# Altium schematic symbol library ov_ftdi.SCHLIB: 56 symbols
Pins are listed as number, name and electrical type; pins without a type are passive.

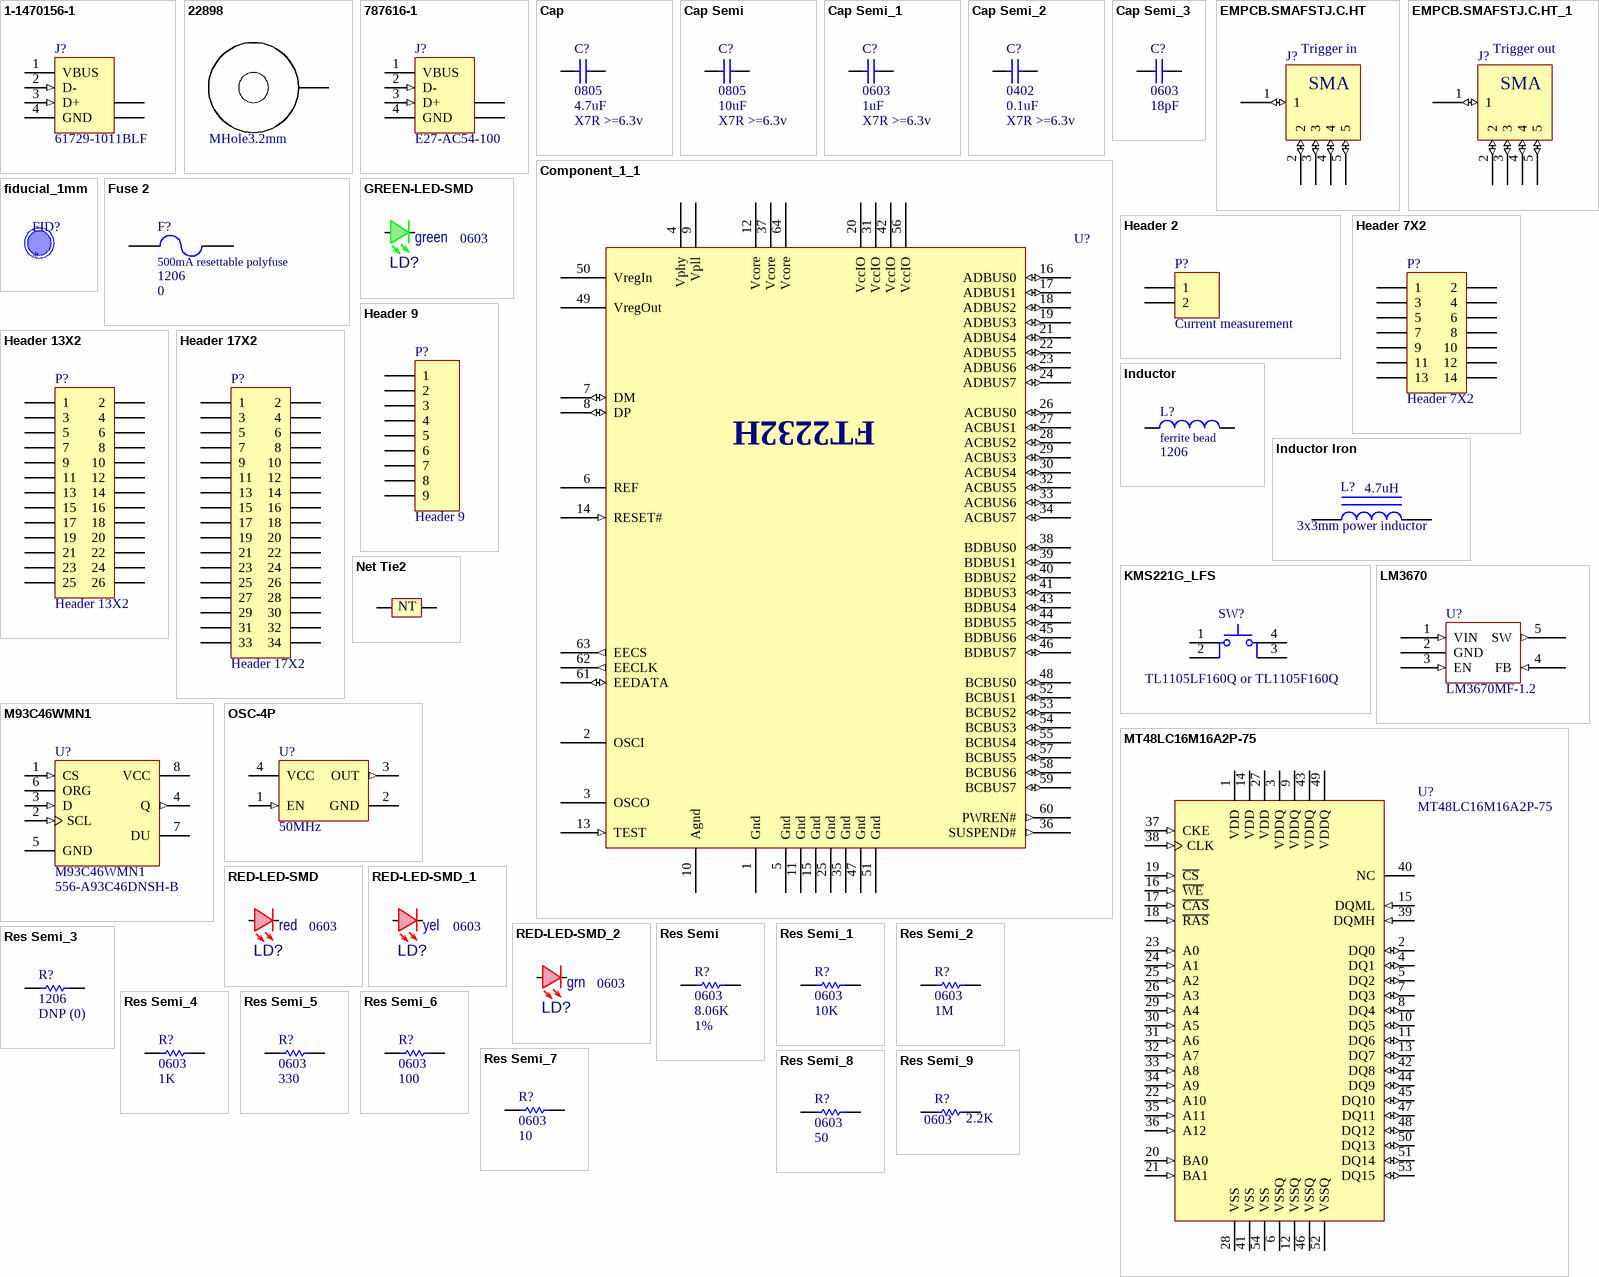
[diagram p0: symbols 1-1470156-1 to Res Semi_9]

## 1-1470156-1
designator J?  value 61729-1011BLF  (hidden comment: 1-1470156-1)
USB 1.1, Right Angle, Thru-Hole, B Type, Receptacle, 4 Position, White; Substitutable: no; PackageReference: 1-1470156
footprint 1-1470156 (Connector; USB1.1, Type B, Thru-Hole; 4 Position; Right Angle)
signal-integrity model USB1.1
pins: 1 VBUS (power) "Power", 2 D- (in) "-DATA", 3 D+ (in) "+DATA", 4 GND (power) "Ground", 5 SHLD "Shield", 6 SHLD "Shield"

## 22898
designator H?, comment MHole3.2mm  (no BOM)
Substitutable: DNP
footprint MHole3_2mm
footprint mounting hole
signal-integrity model Guessed Model (Connector Model Details Guessed by Setup Helper)
pins: 1

## 787616-1
designator J?  value E27-AC54-100  (hidden comment: 787616-1)
USB 1.1, Right Angle, Thru-Hole, A Type, Receptacle, 4 Position, Black; Substitutable: no
footprint 787616 (Connector; USB1.1, Type A, Thru-Hole; 4 Position; Right Angle)
signal-integrity model USB1.1
pins: 1 VBUS (power) "Power", 2 D- (in) "-DATA", 3 D+ (in) "+DATA", 4 GND (power) "Ground", 5 SHLD "Shield", 6 SHLD "Shield"

## Cap
designator C?, comment value 4.7uF  PackageReference: 0805  Rating: X7R >=6.3v  (hidden comment: Cap Semi)
Capacitor; Tolerance: -20%, +80%; Substitutable: yes; Supplier 1: Digi-Key; Supplier Part Number 1: 445-1370-1-ND
footprint RAD-0.3 (Capacitor; 2 Leads)
footprint VP32-3.2 (Capacitor, Ceramic, Thru-Hole, Dipped Radial; Body 5.1 x 3.2 mm (WxT) Pin Spacing 2.54 mm (typ))
footprint VP45-3.2 (Capacitor, Ceramic, Thru-Hole, Dipped Radial; Body 7.8 x 3.2 mm (WxT) Pin Spacing 5.08 mm (typ))
simulation model CAP (Capacitor)
signal-integrity model Cap
footprint 3216[1206] (Chip Resistor; Body 3.2 x 1.6 mm (LxW typ))
footprint CAPC1608L (Chip Capacitor, Body 1.6x0.8mm, IPC High Density)
footprint CAPC1608N
footprint CAPC2012N (Chip Capacitor, Body 2.0x1.3mm, IPC Medium Density)
pins: 1, 2

## Cap Semi
designator C?  value 10uF  PackageReference: 0805  Rating: X7R >=6.3v  (hidden comment: Cap Semi)
Capacitor (Semiconductor SIM Model); Tolerance: ±10%; Substitutable: yes; Supplier 1: Mouser; Supplier Part Number 1: 81-GRM21BR61A106KE19
footprint CAPC3216L (Chip Capacitor, Body 3.2x1.6mm, IPC High Density)
footprint CAPC1005L (Chip Capacitor, Body 1.0x0.5mm, IPC High Density)
footprint CAPC2512L (Chip Capacitor, Body 2.54x1.27mm, IPC High Density)
footprint CAPC1608N
footprint CAPC3225L (Chip Capacitor, Body 3.2x2.5mm, IPC High Density)
simulation model CAP (Semiconductor Capacitor)
signal-integrity model Cap Semi
footprint TC3528-1411 (Capacitor, SM Tantalum; Body 3.5 x 2.8 mm (LxW typ))
footprint CAPC2512N (Chip Capacitor, Body 2.54x1.27mm, IPC Medium Density)
footprint CAPC2012N (Chip Capacitor, Body 2.0x1.3mm, IPC Medium Density)
pins: 1, 2

## Cap Semi_1
designator C?, comment value 1uF  PackageReference: 0603  Rating: X7R >=6.3v  (hidden comment: Cap Semi)
Capacitor (Semiconductor SIM Model); Substitutable: yes; Supplier 1: Digi-Key; Supplier Part Number 1: 445-4703-1-ND
footprint CAPC3216L (Chip Capacitor, Body 3.2x1.6mm, IPC High Density)
footprint CAPC1005L (Chip Capacitor, Body 1.0x0.5mm, IPC High Density)
footprint CAPC2512L (Chip Capacitor, Body 2.54x1.27mm, IPC High Density)
footprint CAPC1608L (Chip Capacitor, Body 1.6x0.8mm, IPC High Density)
footprint CAPC3225L (Chip Capacitor, Body 3.2x2.5mm, IPC High Density)
simulation model CAP (Semiconductor Capacitor)
signal-integrity model Cap Semi
footprint CAPC1005N (Chip Capacitor, Body 1.0x0.5mm, IPC Medium Density)
footprint CAPC1608N
footprint CAPC2012N (Chip Capacitor, Body 2.0x1.3mm, IPC Medium Density)
pins: 1, 2

## Cap Semi_2
designator C?, comment value 0.1uF  PackageReference: 0402  Rating: X7R >=6.3v  (hidden comment: Cap Semi)
Capacitor (Semiconductor SIM Model); Tolerance: ±10%; Substitutable: yes; Supplier 1: Digi-Key; Supplier Part Number 1: 445-4703-1-ND; Supplier 2: Digi-Key; Supplier Part Number 2: 445-6854-1-ND
footprint CAPC3216L (Chip Capacitor, Body 3.2x1.6mm, IPC High Density)
footprint CAPC1005L (Chip Capacitor, Body 1.0x0.5mm, IPC High Density)
footprint CAPC2512L (Chip Capacitor, Body 2.54x1.27mm, IPC High Density)
footprint CAPC1608L (Chip Capacitor, Body 1.6x0.8mm, IPC High Density)
footprint CAPC3225L (Chip Capacitor, Body 3.2x2.5mm, IPC High Density)
simulation model CAP (Semiconductor Capacitor)
signal-integrity model Cap Semi
footprint TC3528-1411 (Capacitor, SM Tantalum; Body 3.5 x 2.8 mm (LxW typ))
footprint CAPC1608N
footprint CAPC2012N (Chip Capacitor, Body 2.0x1.3mm, IPC Medium Density)
footprint CAPC1005N (Chip Capacitor, Body 1.0x0.5mm, IPC Medium Density)
pins: 1, 2

## Cap Semi_3
designator C?, comment value 18pF  PackageReference: 0603  (hidden comment: Cap Semi)
Capacitor (Semiconductor SIM Model); Rating: C0G >=6.3v; Substitutable: yes; Supplier 1: Digi-Key; Supplier Part Number 1: 445-1777-1-ND
footprint CAPC3216L (Chip Capacitor, Body 3.2x1.6mm, IPC High Density)
footprint CAPC1005L (Chip Capacitor, Body 1.0x0.5mm, IPC High Density)
footprint CAPC2512L (Chip Capacitor, Body 2.54x1.27mm, IPC High Density)
footprint CAPC1608L (Chip Capacitor, Body 1.6x0.8mm, IPC High Density)
footprint CAPC3225L (Chip Capacitor, Body 3.2x2.5mm, IPC High Density)
simulation model CAP (Semiconductor Capacitor)
signal-integrity model Cap Semi
footprint CAPC1005N (Chip Capacitor, Body 1.0x0.5mm, IPC Medium Density)
footprint CAPC2012N (Chip Capacitor, Body 2.0x1.3mm, IPC Medium Density)
footprint CAPC1608N
pins: 1, 2

## Component_1_1
designator U?, comment Component_1  (value not drawn)
FT2232H; Substitutable: no; Supplier 1: Mouser; Supplier Part Number 1: 895-FT2232HL; PackageReference: QFP-64; Value: FT2232H
footprint SQFP50P1200X1200X180-64N (SQFP, 64-Leads, Body 12.2x12.2mm (max), Pitch 0.50mm, IPC Medium Density)
signal-integrity model Guessed Model (IC Model Details Guessed by Setup Helper)
pins: 1 Gnd (power), 2 OSCI, 3 OSCO, 4 Vphy (power), 5 Gnd (power), 6 REF, 7 DM (io), 8 DP (io), 9 Vpll (power), 10 Agnd (power), 11 Gnd (power), 12 Vcore (power), 13 TEST (in), 14 RESET# (in), 15 Gnd (power), 16 ADBUS0 (io), 17 ADBUS1 (io), 18 ADBUS2 (io), 19 ADBUS3 (io), 20 VccIO (power), 21 ADBUS4 (io), 22 ADBUS5 (io), 23 ADBUS6 (io), 24 ADBUS7 (io), 25 Gnd (power), 26 ACBUS0 (io), 27 ACBUS1 (io), 28 ACBUS2 (io), 29 ACBUS3 (io), 30 ACBUS4 (io), 31 VccIO (power), 32 ACBUS5 (io), 33 ACBUS6 (io), 34 ACBUS7 (io), 35 Gnd (power), 36 SUSPEND# (out), 37 Vcore (power), 38 BDBUS0 (io), 39 BDBUS1 (io), 40 BDBUS2 (io), 41 BDBUS3 (io), 42 VccIO (power), 43 BDBUS4 (io), 44 BDBUS5 (io), 45 BDBUS6 (io), 46 BDBUS7 (io), 47 Gnd (power), 48 BCBUS0 (io), 49 VregOut (power), 50 VregIn (power), 51 Gnd (power), 52 BCBUS1 (io), 53 BCBUS2 (io), 54 BCBUS3 (io), 55 BCBUS4 (io), 56 VccIO (power), 57 BCBUS5 (io), 58 BCBUS6 (io), 59 BCBUS7 (io), 60 PWREN# (out), 61 EEDATA (io), 62 EECLK (out), 63 EECS (out), 64 Vcore (power)

## EMPCB.SMAFSTJ.C.HT
designator J?, comment Trigger in
PCB edge mount SMA jack
footprint EMPCB.SMAFSTJ.C.HT
pins: 1 (io), 2 (io), 3 (io), 4 (io), 5 (io)
text: SMA

## EMPCB.SMAFSTJ.C.HT_1
designator J?, comment Trigger out
PCB edge mount SMA jack
footprint EMPCB.SMAFSTJ.C.HT
pins: 1 (io), 2 (io), 3 (io), 4 (io), 5 (io)
text: SMA

## fiducial_1mm
designator FID?
footprint Fiducial_1mm

## Fuse 2
designator F?, comment 500mA resettable polyfuse  value 0  PackageReference: 1206
Fuse; Substitutable: yes; Supplier 1: Mouser; Supplier Part Number 1: 576-1206L050YR
footprint PIN-W2/E2.8 (Fuse; 2 Leads)
simulation model FUSE (Spice Subcircuit)
footprint RESC3216N (Chip Resistor, Body 3.2x1.6mm, IPC Medium Density)
signal-integrity model Guessed Model (Resistor Model Details Guessed by Setup Helper)
pins: 1, 2

## GREEN-LED-SMD
designator LD?, comment value green  PackageReference: 0603  (hidden comment: GREEN-LED)
Substitutable: yes; Supplier 1: Mouser; Supplier Part Number 1: 645-598-8060-107F
footprint 0603G
footprint 0805G
footprint 1206G
footprint LED 0603
signal-integrity model Guessed Model (Diode Model Details Guessed by Setup Helper)
pins: A A+, C C-
1 alternate drawing of the same symbol

## Header 2
designator P?, comment Current measurement  (no BOM)
Header, 2-Pin; Substitutable: DNP
footprint HDR1X2 (Connector; Header; 2 Position)
signal-integrity model Connector
pins: 1, 2

## Header 7X2
designator P?  (no BOM)
Header, 7-Pin, Dual row; Substitutable: DNP
footprint HDR2X7 (Connector; Header; 7x2 Position)
signal-integrity model Connector
pins: 1, 2, 3, 4, 5, 6, 7, 8, 9, 10, 11, 12, 13, 14

## Header 9
designator P?  (no BOM)
Header, 9-Pin; Substitutable: DNP
footprint HDR1X9 (Connector; Header; 9 Position)
signal-integrity model Connector
pins: 1, 2, 3, 4, 5, 6, 7, 8, 9

## Header 13X2
designator P?
Header, 13-Pin, Dual row; LatestRevisionDate: 17-Jul-2002; LatestRevisionNote: Re-released for DXP Platform.; Publisher: Altium Limited
footprint HDR2X13 (Connector; Header; 13x2 Position)
signal-integrity model Connector
pins: 1, 2, 3, 4, 5, 6, 7, 8, 9, 10, 11, 12, 13, 14, 15, 16, 17, 18, 19, 20, 21, 22, 23, 24, 25, 26

## Header 17X2
designator P?  (no BOM)
Header, 17-Pin, Dual row; Substitutable: DNP
footprint HDR2X17 (Connector; Header; 17x2 Position)
signal-integrity model Connector
pins: 1, 2, 3, 4, 5, 6, 7, 8, 9, 10, 11, 12, 13, 14, 15, 16, 17, 18, 19, 20, 21, 22, 23, 24, 25, 26, 27, 28, 29, 30, 31, 32, 33, 34

## Inductor
designator L?, comment ferrite bead  PackageReference: 1206
Inductor; VALUE: 0; Substitutable: yes; Supplier 1: Mouser; Supplier Part Number 1: 81-BLM18KG121TN1D
footprint 0402-A (Chip Inductor; Body 1 x 0.5 mm (LxW typ))
footprint INDC0603L (Chip Inductor, Body 0.6x0.3mm, IPC High Density)
footprint 2012_Chip (2012 Chip; Chip Inductor; Body 2.0 x 1.2 mm (LxW typ))
footprint 2029 (Chip Inductor; Body 2 x 1.2 mm (LxW typ))
footprint INDC3216AL (Chip Inductor, Body 3.2x1.6mm, IPC High Density)
footprint 4564_Chip (4564 Chip; Chip Inductor; Body 4.5 x 6.4 mm (LxW typ))
simulation model INDUCTOR (Inductor)
signal-integrity model Inductor
footprint INDC3216AN (Chip Inductor, Body 3.2x1.6mm, IPC Medium Density)
pins: 1, 2

## Inductor Iron
designator L?, comment 3x3mm power inductor  value 4.7uH
Magnetic-Core Inductor; Substitutable: yes; PackageReference: AXIAL-0.9; Supplier 1: Mouser; Supplier Part Number 1: 652-SRN3015-4R7M
footprint COILCRAFT_MSS5121 (Coilcraft shielded power inductor)
simulation model INDUCTOR (Inductor)
signal-integrity model Inductor Iron
footprint 3x3mm inductor
pins: 1, 2

## KMS221G_LFS
designator SW?, comment value TL1105LF160Q or TL1105F160Q  (hidden comment: 4pin button)
Substitutable: no; Supplier 1: Mouser; Supplier Part Number 1: 612-TL1105LF; PackageReference: 4-pin thu-hole
footprint KMS221G_LFS
footprint SKQGADE010 (Alps Tact switch)
footprint TL1105 (E-switch tact switch)
signal-integrity model Guessed Model (Connector Model Details Guessed by Setup Helper)
pins: 1, 2, 3, 4

## LM3670
designator U?, comment value LM3670MF-1.2  (hidden comment: LM3670MF-1.2/NOPB)
LM3670 buck step-down regulator, 350 mA; Substitutable: no; Supplier 1: Mouser; Supplier Part Number 1: 926-LM3670MF33NOPB; PackageReference: SOT23-5
footprint SOT23-5AN (SOT23, 5-Leads, Body 2.9x1.6mm, Pitch 0.95mm, Lead Span 2.8mm, IPC Medium Density)
signal-integrity model Guessed Model (IC Model Details Guessed by Setup Helper)
pins: 1 VIN (in), 2 GND (power), 3 EN (in), 4 FB (in), 5 SW (out)

## M93C46WMN1
designator U?  Supplier Part Number 1: 556-A93C46DNSH-B
1Kb (x8/x16) Serial Microwire Bus EEPROM; Substitutable: no; PackageReference: SOP8; Supplier 1: Mouser; Value: M93C46WMN1
footprint SOP8_N (8-Pin Small Outline Integrated Circuit 1.27 mm Pitch, IPC Medium Density)
footprint SOP8_L (SOIC, 8-Leads, Body 4.9x3.9mm, Pitch 1.27mm, IPC High Density)
footprint SOP8_M (SOIC, 8-Leads, Body 4.9x3.9mm, Pitch 1.27mm, IPC Low Density)
3D model SOP8 (8-Pin Small Outline Integrated Circuit 1.27 mm Pitch)
signal-integrity model Guessed Model (IC Model Details Guessed by Setup Helper)
pins: 1 CS (in), 2 SCL (in), 3 D (in), 4 Q (out), 5 GND (power), 6 ORG, 7 DU, 8 VCC (power)

## MT48LC16M16A2P-75
designator U?
256Mb Synchronous High-Speed CMOS DRAM, 16Mb x 16Bit x 4 Banks, 54-Pin TSOP Pb-free, Commercial; Substitutable: no; PackageReference: TSOP2-54; Value: MT48LC16M16A2P-75; Supplier 1: Digi-Key; Supplier Part Number 1: 557-1059-1-ND; Supplier 2: Arrow; Supplier Part Number 2: 41315055S7057620N2406
footprint TSOP2-54_N (54-Pin Plastic Small Outline Package 0.8 mm Pitch, IPC Medium Density)
footprint TSOP2-54_L (SOP, 54-Leads, Body 22.2x10.16mm, Pitch 0.8mm, IPC High Density)
footprint TSOP2-54_M (SOP, 54-Leads, Body 22.2x10.16mm, Pitch 0.8mm, IPC Low Density)
signal-integrity model Guessed Model (IC Model Details Guessed by Setup Helper)
pins: 1 VDD (power) "Power Supply", 2 DQ0 (io) "Data Input/Output 0", 3 VDDQ (power) "DQ Power", 4 DQ1 (io) "Data Input/Output 1", 5 DQ2 (io) "Data Input/Output 2", 6 VSSQ (power) "DQ Ground", 7 DQ3 (io) "Data Input/Output 3", 8 DQ4 (io) "Data Input/Output 4", 9 VDDQ (power) "DQ Power", 10 DQ5 (io) "Data Input/Output 5", 11 DQ6 (io) "Data Input/Output 6", 12 VSSQ (power) "DQ Ground", 13 DQ7 (io) "Data Input/Output 7", 14 VDD (power) "Power Supply", 15 DQML (in) "Input/Output Mask for DQ0-DQ7", 16 ~{WE} (in) "Command Input", 17 ~{CAS} (in) "Command Input", 18 ~{RAS} (in) "Command Input", 19 ~{CS} (in) "Chip Select", 20 BA0 (in) "Bank Address Input 0", 21 BA1 (in) "Bank Address Input 1", 22 A10 (in) "Address Input 10", 23 A0 (in) "Address Input 0", 24 A1 (in) "Address Input 1", 25 A2 (in) "Address Input 2", 26 A3 (in) "Address Input 3", 27 VDD (power) "Power Supply", 28 VSS (power) "Ground", 29 A4 (in) "Address Input 4", 30 A5 (in) "Address Input 5", 31 A6 (in) "Address Input 6", 32 A7 (in) "Address Input 7", 33 A8 (in) "Address Input 8", 34 A9 (in) "Address Input 9", 35 A11 (in) "Address Input 11", 36 A12 (in) "Address Input 12", 37 CKE (in) "Clock Enable", 38 CLK (in) "Clock", 39 DQMH (in) "Input/Output Mask for DQ8-DQ15", 40 NC "No Connect", 41 VSS (power) "Ground", 42 DQ8 (io) "Data Input/Output 8", 43 VDDQ (power) "DQ Power", 44 DQ9 (io) "Data Input/Output 9", 45 DQ10 (io) "Data Input/Output 10", 46 VSSQ (power) "DQ Ground", 47 DQ11 (io) "Data Input/Output 11", 48 DQ12 (io) "Data Input/Output 12", 49 VDDQ (power) "DQ Power", 50 DQ13 (io) "Data Input/Output 13", 51 DQ14 (io) "Data Input/Output 14", 52 VSSQ (power) "DQ Ground", 53 DQ15 (io) "Data Input/Output 15", 54 VSS (power) "Ground"

## Net Tie2
designator NT?  (value not drawn)  (net tie, no BOM)
0603 Net Tie to connect 2 different nets; Substitutable: DNP
footprint NetTie 0603 (0603-footprint Net Tie)
signal-integrity model Guessed Model (Connector Model Details Guessed by Setup Helper)
pins: 1, 2
text: NT

## OSC-4P
designator U?  value 50MHz
Oscillator; Substitutable: no; PackageReference: 3.2x2.5
footprint SMD-25x20
footprint ASEMB 3.2x2.5 oscillator
footprint ABM3-SMD-50x32
signal-integrity model Guessed Model (IC Model Details Guessed by Setup Helper)
pins: 1 EN (in), 2 GND, 3 OUT (out), 4 VCC

## RED-LED-SMD
designator LD?, comment value red  PackageReference: 0603  (hidden comment: RED-LED)
Substitutable: yes; Supplier 1: Mouser; Supplier Part Number 1: 755-SML-310VTT86
footprint 0603R
footprint 0805R
footprint 1206R
footprint LED 0603
signal-integrity model Guessed Model (Diode Model Details Guessed by Setup Helper)
pins: A A+, C C-
1 alternate drawing of the same symbol

## RED-LED-SMD_1
designator LD?, comment value yel  PackageReference: 0603  (hidden comment: RED-LED)
Substitutable: yes; Supplier 1: Mouser; Supplier Part Number 1: 755-SML-310VTT86
footprint 0603R
footprint 0805R
footprint 1206R
footprint LED 0603
signal-integrity model Guessed Model (Diode Model Details Guessed by Setup Helper)
pins: A A+, C C-
1 alternate drawing of the same symbol

## RED-LED-SMD_2
designator LD?, comment value grn  PackageReference: 0603  (hidden comment: RED-LED)
Substitutable: yes; Supplier 1: Mouser; Supplier Part Number 1: 755-SML-310VTT86
footprint 0603R
footprint 0805R
footprint 1206R
footprint LED 0603
signal-integrity model Guessed Model (Diode Model Details Guessed by Setup Helper)
pins: A A+, C C-
1 alternate drawing of the same symbol

## Res Semi
designator R?  value 8.06K  PackageReference: 0603  Rating: 1%  (hidden comment: Res Semi)
Semiconductor Resistor; Substitutable: yes; Supplier 1: Digi-Key; Supplier Part Number 1: 311-8.06KHRCT-ND
footprint AXIAL-0.5 (Axial Device, Thru-Hole; 2 Leads; 0.5 in Pin Spacing)
footprint RESC1005L (Chip Resistor, Body 1.1x0.5mm, IPC High Density)
footprint RESC1608L (Chip Resistor, Body 1.6x0.8mm, IPC High Density)
footprint RESC2012L (Chip Resistor, Body 2.0x1.3mm, IPC High Density)
footprint RESC3216L (Chip Resistor, Body 3.1x1.6mm, IPC High Density)
simulation model RES (Semiconductor Resistor)
signal-integrity model Res Semi
footprint RESC1608N (Chip Resistor, Body 1.6x0.8mm, IPC Medium Density)
pins: 1, 2

## Res Semi_1
designator R?, comment value 10K  PackageReference: 0603  (hidden comment: Res Semi)
Semiconductor Resistor; Rating: 5%; Substitutable: yes
footprint AXIAL-0.5 (Semiconductor Resistor; 2 Leads)
footprint 1005[0402] (Chip Resistor; Body 1.1 x 0.5 mm (LxW typ))
footprint 1608[0603] (Chip Resistor; Body 1.6 x 0.8 mm (LxW typ))
footprint 2012[0805] (Chip Resistor; Body 2.0 x 1.3 mm (LxW typ))
footprint 3216[1206] (Chip Resistor; Body 3.2 x 1.6 mm (LxW typ))
simulation model RES (Semiconductor Resistor)
signal-integrity model Res Semi
footprint RESC1608L (Chip Resistor, Body 1.6x0.8mm, IPC High Density)
footprint RESC1005N (Chip Resistor, Body 1.1x0.5mm, IPC Medium Density)
footprint RESC1608N (Chip Resistor, Body 1.6x0.8mm, IPC Medium Density)
pins: 1, 2

## Res Semi_2
designator R?, comment value 1M  PackageReference: 0603  (hidden comment: Res Semi)
Semiconductor Resistor; Rating: 5%; Substitutable: yes
footprint AXIAL-0.5 (Semiconductor Resistor; 2 Leads)
footprint 1005[0402] (Chip Resistor; Body 1.1 x 0.5 mm (LxW typ))
footprint 1608[0603] (Chip Resistor; Body 1.6 x 0.8 mm (LxW typ))
footprint 2012[0805] (Chip Resistor; Body 2.0 x 1.3 mm (LxW typ))
footprint 3216[1206] (Chip Resistor; Body 3.2 x 1.6 mm (LxW typ))
simulation model RES (Semiconductor Resistor)
signal-integrity model Res Semi
footprint RESC1608L (Chip Resistor, Body 1.6x0.8mm, IPC High Density)
footprint RESC1005N (Chip Resistor, Body 1.1x0.5mm, IPC Medium Density)
footprint RESC1608N (Chip Resistor, Body 1.6x0.8mm, IPC Medium Density)
pins: 1, 2

## Res Semi_3
designator R?, comment value DNP (0)  PackageReference: 1206  (hidden comment: Res Semi)
Semiconductor Resistor; Rating: 5%; Substitutable: yes
footprint AXIAL-0.5 (Semiconductor Resistor; 2 Leads)
footprint 1005[0402] (Chip Resistor; Body 1.1 x 0.5 mm (LxW typ))
footprint 1608[0603] (Chip Resistor; Body 1.6 x 0.8 mm (LxW typ))
footprint 2012[0805] (Chip Resistor; Body 2.0 x 1.3 mm (LxW typ))
footprint 3216[1206] (Chip Resistor; Body 3.2 x 1.6 mm (LxW typ))
simulation model RES (Semiconductor Resistor)
signal-integrity model Res Semi
footprint RESC1608L (Chip Resistor, Body 1.6x0.8mm, IPC High Density)
footprint RESC1005N (Chip Resistor, Body 1.1x0.5mm, IPC Medium Density)
footprint RESC1608N (Chip Resistor, Body 1.6x0.8mm, IPC Medium Density)
footprint RESC3216N (Chip Resistor, Body 3.2x1.6mm, IPC Medium Density)
pins: 1, 2

## Res Semi_4
designator R?, comment value 1K  PackageReference: 0603  (hidden comment: Res Semi)
Semiconductor Resistor; Rating: 5%; Substitutable: yes
footprint AXIAL-0.5 (Semiconductor Resistor; 2 Leads)
footprint 1005[0402] (Chip Resistor; Body 1.1 x 0.5 mm (LxW typ))
footprint 1608[0603] (Chip Resistor; Body 1.6 x 0.8 mm (LxW typ))
footprint 2012[0805] (Chip Resistor; Body 2.0 x 1.3 mm (LxW typ))
footprint 3216[1206] (Chip Resistor; Body 3.2 x 1.6 mm (LxW typ))
simulation model RES (Semiconductor Resistor)
signal-integrity model Res Semi
footprint RESC1608L (Chip Resistor, Body 1.6x0.8mm, IPC High Density)
footprint RESC1005N (Chip Resistor, Body 1.1x0.5mm, IPC Medium Density)
footprint RESC1608N (Chip Resistor, Body 1.6x0.8mm, IPC Medium Density)
pins: 1, 2

## Res Semi_5
designator R?, comment value 330  PackageReference: 0603  (hidden comment: Res Semi)
Semiconductor Resistor; Rating: 5%; Substitutable: yes
footprint AXIAL-0.5 (Semiconductor Resistor; 2 Leads)
footprint 1005[0402] (Chip Resistor; Body 1.1 x 0.5 mm (LxW typ))
footprint 1608[0603] (Chip Resistor; Body 1.6 x 0.8 mm (LxW typ))
footprint 2012[0805] (Chip Resistor; Body 2.0 x 1.3 mm (LxW typ))
footprint 3216[1206] (Chip Resistor; Body 3.2 x 1.6 mm (LxW typ))
simulation model RES (Semiconductor Resistor)
signal-integrity model Res Semi
footprint RESC1608L (Chip Resistor, Body 1.6x0.8mm, IPC High Density)
footprint RESC1005N (Chip Resistor, Body 1.1x0.5mm, IPC Medium Density)
footprint RESC1608N (Chip Resistor, Body 1.6x0.8mm, IPC Medium Density)
pins: 1, 2

## Res Semi_6
designator R?, comment value 100  PackageReference: 0603  (hidden comment: Res Semi)
Semiconductor Resistor; Rating: 5%; Substitutable: yes
footprint AXIAL-0.5 (Semiconductor Resistor; 2 Leads)
footprint 1005[0402] (Chip Resistor; Body 1.1 x 0.5 mm (LxW typ))
footprint 1608[0603] (Chip Resistor; Body 1.6 x 0.8 mm (LxW typ))
footprint 2012[0805] (Chip Resistor; Body 2.0 x 1.3 mm (LxW typ))
footprint 3216[1206] (Chip Resistor; Body 3.2 x 1.6 mm (LxW typ))
simulation model RES (Semiconductor Resistor)
signal-integrity model Res Semi
footprint RESC1608L (Chip Resistor, Body 1.6x0.8mm, IPC High Density)
footprint RESC1608N (Chip Resistor, Body 1.6x0.8mm, IPC Medium Density)
pins: 1, 2

## Res Semi_7
designator R?, comment value 10  PackageReference: 0603  (hidden comment: Res Semi)
Semiconductor Resistor; Rating: 5%; Substitutable: yes
footprint AXIAL-0.5 (Semiconductor Resistor; 2 Leads)
footprint 1005[0402] (Chip Resistor; Body 1.1 x 0.5 mm (LxW typ))
footprint 1608[0603] (Chip Resistor; Body 1.6 x 0.8 mm (LxW typ))
footprint 2012[0805] (Chip Resistor; Body 2.0 x 1.3 mm (LxW typ))
footprint 3216[1206] (Chip Resistor; Body 3.2 x 1.6 mm (LxW typ))
simulation model RES (Semiconductor Resistor)
footprint RESC1608L (Chip Resistor, Body 1.6x0.8mm, IPC High Density)
footprint RESC1608N (Chip Resistor, Body 1.6x0.8mm, IPC Medium Density)
signal-integrity model Res Semi
pins: 1, 2

## Res Semi_8
designator R?, comment value 50  PackageReference: 0603  (hidden comment: Res Semi)
Semiconductor Resistor; Rating: 5%; Substitutable: yes
footprint AXIAL-0.5 (Semiconductor Resistor; 2 Leads)
footprint 1005[0402] (Chip Resistor; Body 1.1 x 0.5 mm (LxW typ))
footprint 1608[0603] (Chip Resistor; Body 1.6 x 0.8 mm (LxW typ))
footprint 2012[0805] (Chip Resistor; Body 2.0 x 1.3 mm (LxW typ))
footprint 3216[1206] (Chip Resistor; Body 3.2 x 1.6 mm (LxW typ))
simulation model RES (Semiconductor Resistor)
footprint RESC1608L (Chip Resistor, Body 1.6x0.8mm, IPC High Density)
footprint RESC1608N (Chip Resistor, Body 1.6x0.8mm, IPC Medium Density)
signal-integrity model Res Semi
pins: 1, 2

## Res Semi_9
designator R?, comment value 2.2K  PackageReference: 0603  (hidden comment: Res Semi)
Semiconductor Resistor; Rating: 5%; Substitutable: yes; Supplier 1: Digi-Key; Supplier Part Number 1: P2.2KGCT-ND
footprint AXIAL-0.5 (Semiconductor Resistor; 2 Leads)
footprint 1005[0402] (Chip Resistor; Body 1.1 x 0.5 mm (LxW typ))
footprint 1608[0603] (Chip Resistor; Body 1.6 x 0.8 mm (LxW typ))
footprint 2012[0805] (Chip Resistor; Body 2.0 x 1.3 mm (LxW typ))
footprint 3216[1206] (Chip Resistor; Body 3.2 x 1.6 mm (LxW typ))
simulation model RES (Semiconductor Resistor)
signal-integrity model Res Semi
footprint RESC1608L (Chip Resistor, Body 1.6x0.8mm, IPC High Density)
footprint RESC1608N (Chip Resistor, Body 1.6x0.8mm, IPC Medium Density)
pins: 1, 2

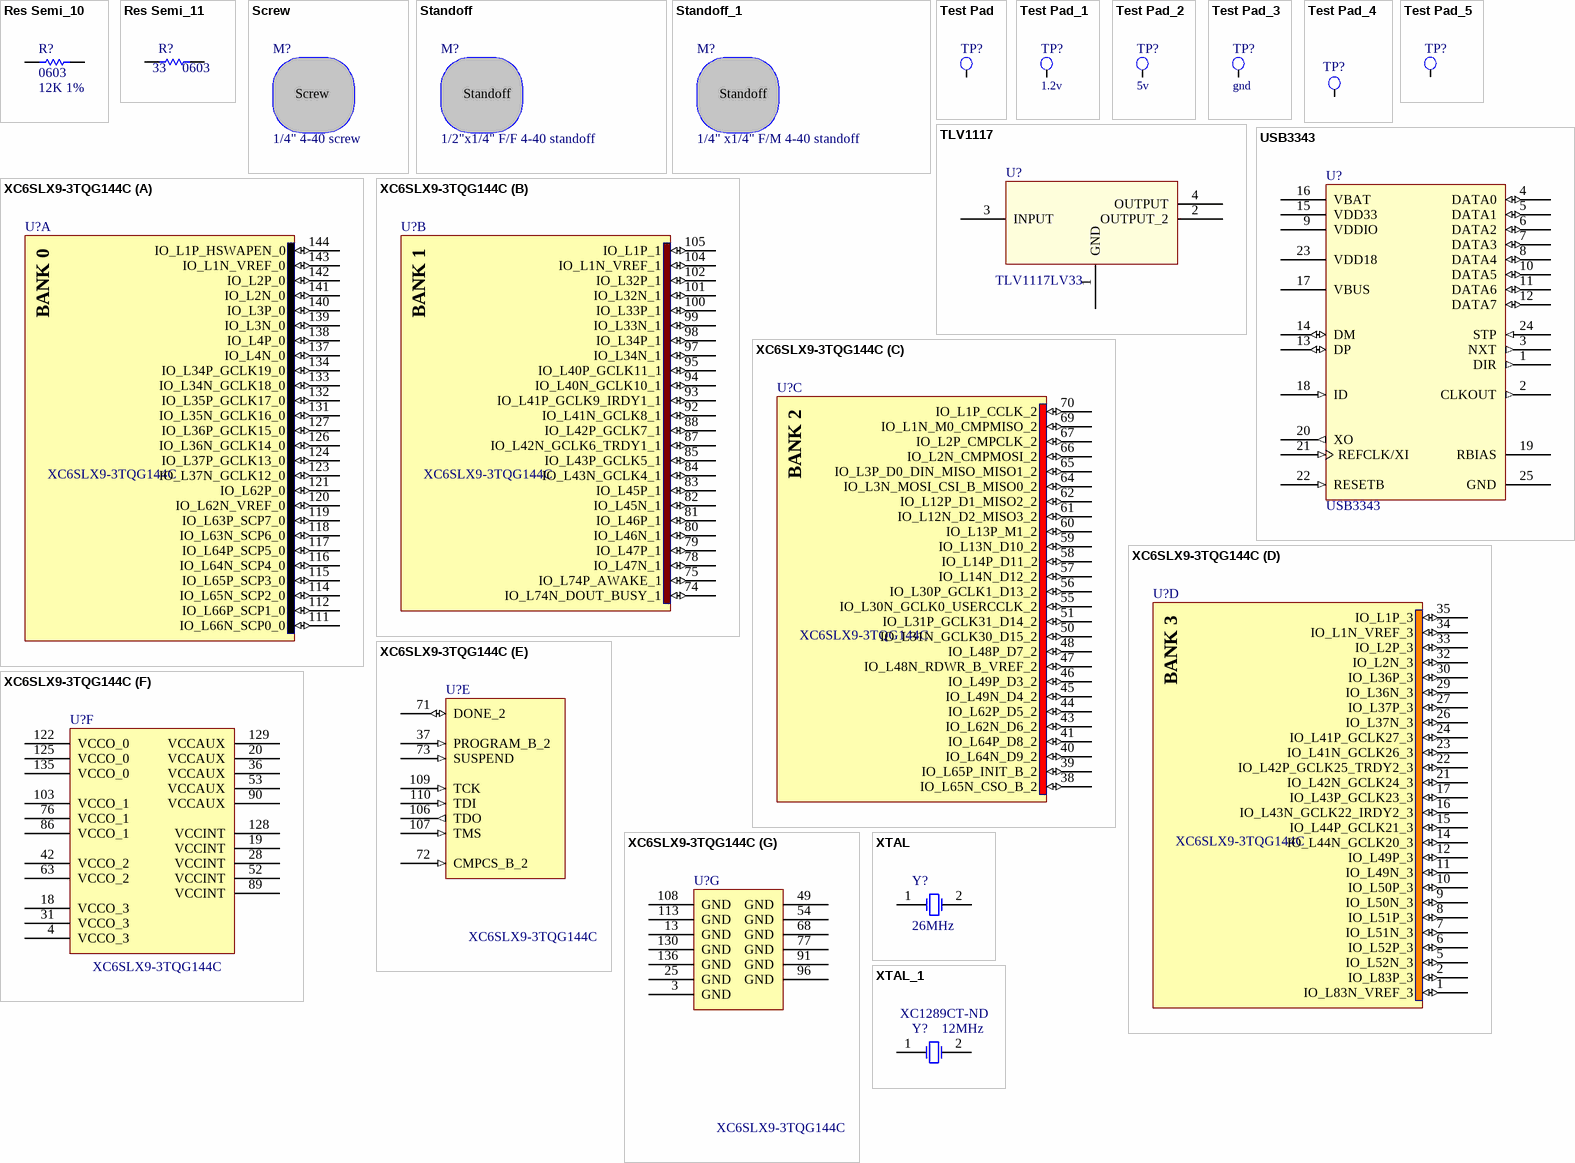
[diagram p1: symbols Res Semi_10 to XTAL_1]

## Res Semi_10
designator R?, comment value 12K 1%  PackageReference: 0603  (hidden comment: Res Semi)
Semiconductor Resistor; Rating: 1%; Substitutable: yes; Supplier 1: Digi-Key; Supplier Part Number 1: P12.0KHCT-ND
footprint AXIAL-0.5 (Semiconductor Resistor; 2 Leads)
footprint 1005[0402] (Chip Resistor; Body 1.1 x 0.5 mm (LxW typ))
footprint 1608[0603] (Chip Resistor; Body 1.6 x 0.8 mm (LxW typ))
footprint 2012[0805] (Chip Resistor; Body 2.0 x 1.3 mm (LxW typ))
footprint 3216[1206] (Chip Resistor; Body 3.2 x 1.6 mm (LxW typ))
simulation model RES (Semiconductor Resistor)
signal-integrity model Res Semi
footprint RESC1608L (Chip Resistor, Body 1.6x0.8mm, IPC High Density)
footprint RESC1608N (Chip Resistor, Body 1.6x0.8mm, IPC Medium Density)
pins: 1, 2

## Res Semi_11
designator R?, comment value 33  PackageReference: 0603  (hidden comment: Res Semi)
Semiconductor Resistor; Rating: 5%; Substitutable: yes
footprint AXIAL-0.5 (Semiconductor Resistor; 2 Leads)
footprint 1005[0402] (Chip Resistor; Body 1.1 x 0.5 mm (LxW typ))
footprint 1608[0603] (Chip Resistor; Body 1.6 x 0.8 mm (LxW typ))
footprint 2012[0805] (Chip Resistor; Body 2.0 x 1.3 mm (LxW typ))
footprint 3216[1206] (Chip Resistor; Body 3.2 x 1.6 mm (LxW typ))
simulation model RES (Semiconductor Resistor)
signal-integrity model Res Semi
footprint RESC1608L (Chip Resistor, Body 1.6x0.8mm, IPC High Density)
footprint RESC1608N (Chip Resistor, Body 1.6x0.8mm, IPC Medium Density)
pins: 1, 2

## Screw
designator M?, comment 1/4" 4-40 screw  (mechanical)
DigiKey Link: http://www.digikey.com/product-detail/en/PMSSS%20440%200025%20PH/H703-ND/274914; DigiKey Price/100: 0.0564; Mouser Link: https://www.mouser.com/Search/ProductDetail.aspx?R=9900virtualkey53400000virtualkey534-9900; Mouser Price/100: 0.06
footprint fiducial

## Standoff
designator M?, comment 1/2"x1/4" F/F 4-40 standoff  (mechanical)
DigiKey Link: http://www.digikey.com/product-detail/en/2203/2203K-ND/82512; DigiKey Price/100: 0.296; Mouser Link: https://www.mouser.com/Search/ProductDetail.aspx?R=2104-440-AL-7virtualkey68520000virtualkey761-2104-440-AL-7; Mouser Price/100: 0.19
footprint fiducial

## Standoff_1
designator M?, comment 1/4" x1/4" F/M 4-40 standoff  (mechanical)
1/4"x1/4" F/M 4-40 standof; DigiKey Link: http://www.digikey.com/product-search/en?mpart=8714&vendor=36; DigiKey Price/100: 0.278; Mouser Link: https://www.mouser.com/Search/ProductDetail.aspx?R=8714virtualkey53400000virtualkey534-8714; Mouser Price/100: 0,281
footprint fiducial

## Test Pad
designator TP?  (no BOM)
PCB test point; Substitutable: DNP
footprint testpoint-60mil (30mil testpoint)
footprint testpoint-30mil (30mil testpoint)
pins: 1 pin

## Test Pad_1
designator TP?, comment 1.2v  (no BOM)
PCB test point; Substitutable: DNP
footprint testpoint (30mil testpoint)
footprint ground pad
signal-integrity model Guessed Model (Connector Model Details Guessed by Setup Helper)
pins: 1 pin

## Test Pad_2
designator TP?, comment 5v  (no BOM)
PCB test point; Substitutable: DNP
footprint testpoint (30mil testpoint)
footprint ground pad
signal-integrity model Guessed Model (Connector Model Details Guessed by Setup Helper)
pins: 1 pin

## Test Pad_3
designator TP?, comment gnd  (no BOM)
PCB test point; Substitutable: DNP
footprint testpoint (30mil testpoint)
footprint ground pad
signal-integrity model Guessed Model (Connector Model Details Guessed by Setup Helper)
pins: 1 pin

## Test Pad_4
designator TP?  (no BOM)
PCB test point; Substitutable: DNP
footprint testpoint (30mil testpoint)
footprint ground pad
signal-integrity model Guessed Model (Connector Model Details Guessed by Setup Helper)
pins: 1 pin

## Test Pad_5
designator TP?, comment Test Point  (value not drawn)  (no BOM)
Substitutable: DNP
footprint testpoint (30mil testpoint)
signal-integrity model Guessed Model (Connector Model Details Guessed by Setup Helper)
footprint ground pad
pins: 1 pin

## TLV1117
designator U?, comment TLV1117LV33
Substitutable: no; Supplier 1: Digi-Key; Supplier Part Number 1: 296-28778-1-ND; PackageReference: SOT-223; Value: TLV1117LV33
footprint DCY4
signal-integrity model Guessed Model (IC Model Details Guessed by Setup Helper)
pins: 1 GND (power), 2 OUTPUT_2 (power), 3 INPUT (power), 4 OUTPUT (power)

## USB3343
designator U?
Hi-Speed USB Transceiver with 1.8V-3.3V ULPI Interface - MHz Reference Clock; Substitutable: no; PackageReference: QFN-24; Value: USB3343
footprint USB3318 (QFN24) (QFN, 24-Leads, Body 4.2x4.2mm (max), Pitch 0.50mm, IPC Medium Density)
footprint SMSC USB334x QFN24
signal-integrity model Guessed Model (IC Model Details Guessed by Setup Helper)
pins: 1 DIR (out), 2 CLKOUT (out), 3 NXT (out), 4 DATA0 (io), 5 DATA1 (io), 6 DATA2 (io), 7 DATA3 (io), 8 DATA4 (io), 9 VDDIO (power), 10 DATA5 (io), 11 DATA6 (io), 12 DATA7 (io), 13 DP (io), 14 DM (io), 15 VDD33 (power), 16 VBAT (power), 17 VBUS (power), 18 ID (in), 19 RBIAS, 20 XO (out), 21 REFCLK/XI (in), 22 RESETB (in), 23 VDD18 (power), 24 STP (in), 25 GND (power)

## XC6SLX9-3TQG144C
designator U?
Spartan-6 LX 1.2V FPGA, 102 User I/Os, 144-Pin TQFP (0.5mm Pitch), Speed Grade 3, Commercial Grade, Pb-Free; Substitutable: no; PackageReference: TQG144; Value: XC6SLX9-3TQG144C
footprint TQG144_N (Thin QFP, 144-Leads, Body 20x20mm, Pitch 0.5mm, IPC Medium Density)
footprint TQG144_L (Thin QFP, 144-Leads, Body 20x20mm, Pitch 0.5mm, IPC High Density)
footprint TQG144_M (Thin QFP, 144-Leads, Body 20x20mm, Pitch 0.5mm, IPC Low Density)
signal-integrity model XC6SLX9_TQG144 (Spartan-6)
part A pins: 111 IO_L66N_SCP0_0 (io), 112 IO_L66P_SCP1_0 (io), 114 IO_L65N_SCP2_0 (io), 115 IO_L65P_SCP3_0 (io), 116 IO_L64N_SCP4_0 (io), 117 IO_L64P_SCP5_0 (io), 118 IO_L63N_SCP6_0 (io), 119 IO_L63P_SCP7_0 (io), 120 IO_L62N_VREF_0 (io), 121 IO_L62P_0 (io), 123 IO_L37N_GCLK12_0 (io), 124 IO_L37P_GCLK13_0 (io), 126 IO_L36N_GCLK14_0 (io), 127 IO_L36P_GCLK15_0 (io), 131 IO_L35N_GCLK16_0 (io), 132 IO_L35P_GCLK17_0 (io), 133 IO_L34N_GCLK18_0 (io), 134 IO_L34P_GCLK19_0 (io), 137 IO_L4N_0 (io), 138 IO_L4P_0 (io), 139 IO_L3N_0 (io), 140 IO_L3P_0 (io), 141 IO_L2N_0 (io), 142 IO_L2P_0 (io), 143 IO_L1N_VREF_0 (io), 144 IO_L1P_HSWAPEN_0 (io)
part B pins: 74 IO_L74N_DOUT_BUSY_1 (io), 75 IO_L74P_AWAKE_1 (io), 78 IO_L47N_1 (io), 79 IO_L47P_1 (io), 80 IO_L46N_1 (io), 81 IO_L46P_1 (io), 82 IO_L45N_1 (io), 83 IO_L45P_1 (io), 84 IO_L43N_GCLK4_1 (io), 85 IO_L43P_GCLK5_1 (io), 87 IO_L42N_GCLK6_TRDY1_1 (io), 88 IO_L42P_GCLK7_1 (io), 92 IO_L41N_GCLK8_1 (io), 93 IO_L41P_GCLK9_IRDY1_1 (io), 94 IO_L40N_GCLK10_1 (io), 95 IO_L40P_GCLK11_1 (io), 97 IO_L34N_1 (io), 98 IO_L34P_1 (io), 99 IO_L33N_1 (io), 100 IO_L33P_1 (io), 101 IO_L32N_1 (io), 102 IO_L32P_1 (io), 104 IO_L1N_VREF_1 (io), 105 IO_L1P_1 (io)
part C pins: 38 IO_L65N_CSO_B_2 (io), 39 IO_L65P_INIT_B_2 (io), 40 IO_L64N_D9_2 (io), 41 IO_L64P_D8_2 (io), 43 IO_L62N_D6_2 (io), 44 IO_L62P_D5_2 (io), 45 IO_L49N_D4_2 (io), 46 IO_L49P_D3_2 (io), 47 IO_L48N_RDWR_B_VREF_2 (io), 48 IO_L48P_D7_2 (io), 50 IO_L31N_GCLK30_D15_2 (io), 51 IO_L31P_GCLK31_D14_2 (io), 55 IO_L30N_GCLK0_USERCCLK_2 (io), 56 IO_L30P_GCLK1_D13_2 (io), 57 IO_L14N_D12_2 (io), 58 IO_L14P_D11_2 (io), 59 IO_L13N_D10_2 (io), 60 IO_L13P_M1_2 (io), 61 IO_L12N_D2_MISO3_2 (io), 62 IO_L12P_D1_MISO2_2 (io), 64 IO_L3N_MOSI_CSI_B_MISO0_2 (io), 65 IO_L3P_D0_DIN_MISO_MISO1_2 (io), 66 IO_L2N_CMPMOSI_2 (io), 67 IO_L2P_CMPCLK_2 (io), 69 IO_L1N_M0_CMPMISO_2 (io), 70 IO_L1P_CCLK_2 (io)
part D pins: 1 IO_L83N_VREF_3 (io), 2 IO_L83P_3 (io), 5 IO_L52N_3 (io), 6 IO_L52P_3 (io), 7 IO_L51N_3 (io), 8 IO_L51P_3 (io), 9 IO_L50N_3 (io), 10 IO_L50P_3 (io), 11 IO_L49N_3 (io), 12 IO_L49P_3 (io), 14 IO_L44N_GCLK20_3 (io), 15 IO_L44P_GCLK21_3 (io), 16 IO_L43N_GCLK22_IRDY2_3 (io), 17 IO_L43P_GCLK23_3 (io), 21 IO_L42N_GCLK24_3 (io), 22 IO_L42P_GCLK25_TRDY2_3 (io), 23 IO_L41N_GCLK26_3 (io), 24 IO_L41P_GCLK27_3 (io), 26 IO_L37N_3 (io), 27 IO_L37P_3 (io), 29 IO_L36N_3 (io), 30 IO_L36P_3 (io), 32 IO_L2N_3 (io), 33 IO_L2P_3 (io), 34 IO_L1N_VREF_3 (io), 35 IO_L1P_3 (io)
part E pins: 37 PROGRAM_B_2 (in), 71 DONE_2 (io), 72 CMPCS_B_2 (in), 73 SUSPEND (in), 106 TDO (out), 107 TMS (in), 109 TCK (in), 110 TDI (in)
part F pins: 4 VCCO_3 (power), 18 VCCO_3 (power), 19 VCCINT (power), 20 VCCAUX (power), 28 VCCINT (power), 31 VCCO_3 (power), 36 VCCAUX (power), 42 VCCO_2 (power), 52 VCCINT (power), 53 VCCAUX (power), 63 VCCO_2 (power), 76 VCCO_1 (power), 86 VCCO_1 (power), 89 VCCINT (power), 90 VCCAUX (power), 103 VCCO_1 (power), 122 VCCO_0 (power), 125 VCCO_0 (power), 128 VCCINT (power), 129 VCCAUX (power), 135 VCCO_0 (power)
part G pins: 3 GND (power), 13 GND (power), 25 GND (power), 49 GND (power), 54 GND (power), 68 GND (power), 77 GND (power), 91 GND (power), 96 GND (power), 108 GND (power), 113 GND (power), 130 GND (power), 136 GND (power)
part A text: BANK 0
part B text: BANK 1
part C text: BANK 2
part D text: BANK 3

## XTAL
designator Y?, comment 26MHz
Crystal Oscillator; Substitutable: yes; PackageReference: HS-49; Value: 26 MHz
footprint BCY-W2/D3.1 (Crystal, Thru-Hole; 2 Leads; Body 3.1 x 8.2 mm (Dia.xH))
simulation model XTAL (Spice Subcircuit)
footprint HC49/4H_SMX (Surface Mount Quartz Crystal; Body 13.4 (inc. leads) x 4.9 mm (LxW max))
footprint 12SMXA (Surface Mount Quartz Crystal; Body 7.5 x 5.1 mm (LxW max))
signal-integrity model Guessed Model (IC Model Details Guessed by Setup Helper)
pins: 1 OSC1, 2 OSC2

## XTAL_1
designator Y?, comment 12MHz  Supplier Part Number 1: XC1289CT-ND
Crystal Oscillator; Substitutable: yes; PackageReference: HS-49; Value: 12 MHz; Supplier 1: Digi-Key
footprint BCY-W2/D3.1 (Crystal, Thru-Hole; 2 Leads; Body 3.1 x 8.2 mm (Dia.xH))
simulation model XTAL (Spice Subcircuit)
footprint HC49/4H_SMX (Surface Mount Quartz Crystal; Body 13.4 (inc. leads) x 4.9 mm (LxW max))
footprint 12SMXA (Surface Mount Quartz Crystal; Body 7.5 x 5.1 mm (LxW max))
signal-integrity model Guessed Model (IC Model Details Guessed by Setup Helper)
pins: 1 OSC1, 2 OSC2